# Altium schematic symbol library 简化版PCB.SCHLIB: 25 symbols
Pins are listed as number, name and electrical type; pins without a type are passive.

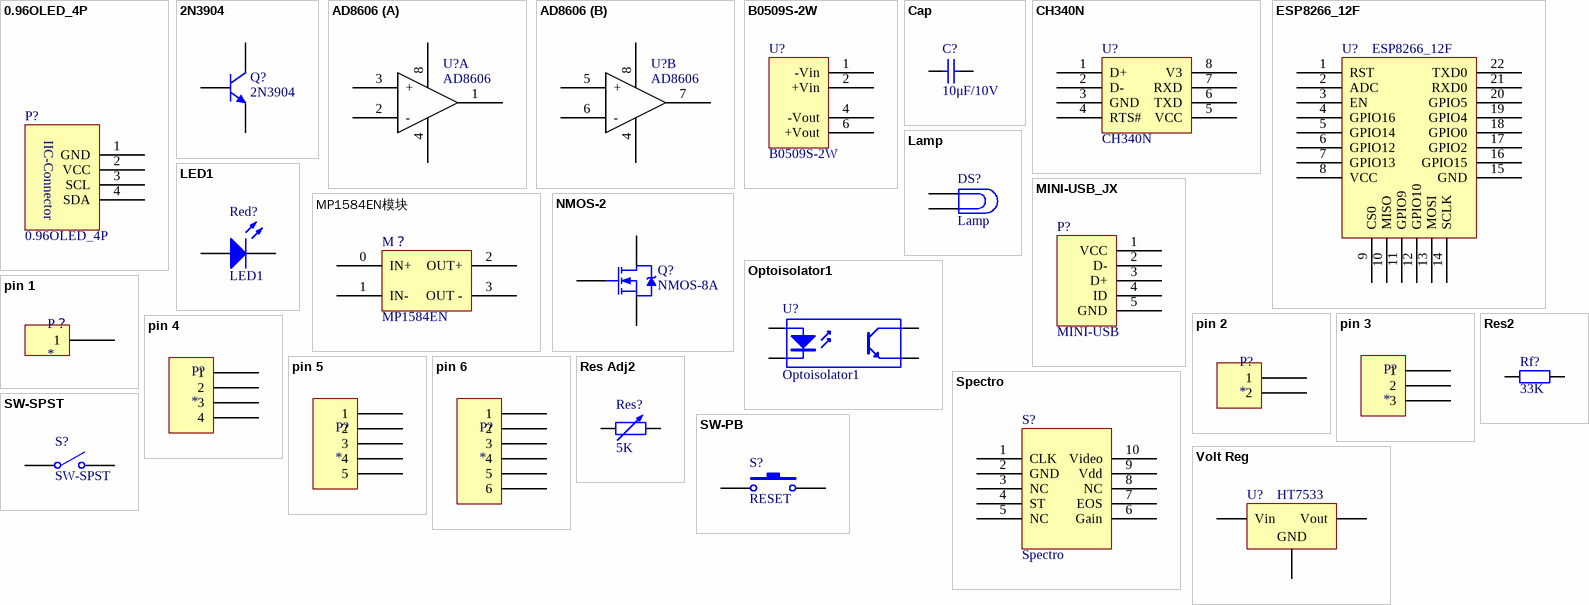
[diagram p0: symbols 0.96OLED_4P to Volt Reg]

## 0.96OLED_4P
designator P?
footprint OLED0.96-4P
pins: 1 GND, 2 VCC, 3 SCL, 4 SDA
text: IIC-Connector

## 2N3904
designator Q?
NPN General Purpose Amplifier; Published: 8-Jun-2000; LatestRevisionDate: 15-Jan-2003; LatestRevisionNote: PCB Footprint 'BCY-W3/D4.7' replaced; DatasheetVersion: 1997; PackageVersion: Sep-1998; PackageReference: TO-92A; Publisher: Altium Limited; PackageDescription: TO, Flat Index; 3 In-Line, Axial Leads; Body Dia. 4.5mm; Leads 0.51 x 0.48 mm (max); ComponentLink1Description: Manufacturer Link; ComponentLink1URL: http://www.fairchildsemi.com/; ComponentLink2Description: Datasheet; ComponentLink2URL: http://www.fairchildsemi.com/ds/2N%2F2N3904.pdf
footprint TO-92A (TO, Flat Index; 3 In-Line, Axial Leads; Body Dia. 4.5mm; Leads 0.51 x 0.48 mm (max))
simulation model 2N3904 (NPN)
signal-integrity model 2N3904
footprint SOT-23
pins: 1 B, 2 E, 3 C

## AD8606
designator U?
footprint SOP8 (封装库来自淘宝卖家 ID：黄晶宝石)
part A pins: 1 OUT A, 2 -, 3 +, 4 VEE, 8 VCC
part B pins: 4 VEE, 5 +, 6 -, 7 OUT B, 8 VCC

## B0509S-2W
designator U?
footprint B0509S-2W
pins: 1 -Vin, 2 +Vin, 4 -Vout, 6 +Vout

## Cap
designator C?, comment 10μF/10V
Capacitor; Value: 0.1μF; Published: 8-Jun-2000; LatestRevisionDate: 17-Jul-2002; LatestRevisionNote: Re-released for DXP Platform.; PackageReference: RAD-0.3; Publisher: Altium Limited; PackageDescription: Radial Cap, Thru-Hole; 2 Leads; 0.3 in Pin Spacing
footprint RAD-0.3 (Radial Cap, Thru-Hole; 2 Leads; 0.3 in Pin Spacing)
simulation model CAP (Capacitor)
signal-integrity model Cap
footprint 0805
pins: 1, 2

## CH340N
designator U?
footprint SOP8 (封装库来自淘宝卖家 ID：黄晶宝石)
pins: 1 D+, 2 D-, 3 GND, 4 RTS#, 5 VCC, 6 TXD, 7 RXD, 8 V3

## ESP8266_12F
designator U?
footprint esp8266-12f
pins: 1 RST, 2 ADC, 3 EN, 4 GPIO16, 5 GPIO14, 6 GPIO12, 7 GPIO13, 8 VCC, 9 CS0, 10 MISO, 11 GPIO9, 12 GPIO10, 13 MOSI, 14 SCLK, 15 GND, 16 GPIO15, 17 GPIO2, 18 GPIO0, 19 GPIO4, 20 GPIO5, 21 RXD0, 22 TXD0

## Lamp
designator DS?
Incandescent Bulb; Published: 24-Mar-1999; LatestRevisionNote: Re-released for DXP Platform.; PackageReference: PIN2; Publisher: Altium Limited
footprint PIN2 (Incandescent Bulb; 2 Leads)
footprint LAMP
pins: 1, 2

## LED1
designator Red?
Typical RED GaAs LED; Published: 8-Jun-2000; LatestRevisionDate: 08-Jul-2005; LatestRevisionNote: Mech Layer 1 removed.; PackageReference: LED-1; Publisher: Altium Limited; PackageDescription: LED; 2 Leads
footprint LED-1 (LED; 2 Leads)
simulation model LED1 (Diode)
footprint 0805-LED (LED, SMD, 0805)
pins: 1 A, 2 K

## MINI-USB_JX
designator P?, comment MINI-USB
footprint Micro_USB (5P 贴片 带定位柱)
pins: 1 VCC, 2 D-, 3 D+, 4 ID, 5 GND

## MP1584EN模块
designator M？, comment MP1584EN
footprint MP1584EN模块
pins: 0 IN+, 1 IN-, 2 OUT+, 3 OUT -

## NMOS-2
designator Q?, comment NMOS-8A
N-Channel Power MOSFET; Note: Pin 2 is electrically connected to pin 4.; Published: 8-Jun-2000; LatestRevisionDate: 17-Jul-2002; LatestRevisionNote: Re-released for DXP Platform.; DatasheetVersion: PD-9.814; PackageVersion: Feb-1997; PackageReference: TO-220AB; Publisher: Altium Limited; PackageDescription: TO, Thru-Hole, Vertical, Heatsink Mounted; 3 In-Line Leads; Pitch 2.54 mm; ComponentLink1Description: Manufacturer Link; ComponentLink1URL: http://www.irf.com/
footprint TO-220AB (TO, Thru-Hole, Vertical, Heatsink Mounted; 3 In-Line Leads; Pitch 2.54 mm)
simulation model IRF1010 (Spice Subcircuit)
footprint SOT-23
pins: 1 G, 2 S, 3 D

## Optoisolator1
designator U?
4-Pin Phototransistor Optocoupler; Published: 24-Mar-1999; LatestRevisionDate: 04-Mar-2005; LatestRevisionNote: Sch pins 3 & 4 Swapped.; DatasheetVersion: Nov-2003; PackageReference: DIP-4; Publisher: Altium Limited
footprint DIP-4 (DIP; 4 Leads; Row Spacing 7.62 mm; Pitch 2.54 mm)
footprint SOP4 (间距1.27mm     封装库来自淘宝卖家 ID：黄晶宝石)
pins: 1 A "Anode", 2 K "Cathode", 3 E "Emitter", 4 C "Collector"

## pin 1
designator P？
footprint PIN-1-1.0 (Pin Header)
pins: 1

## pin 2
designator P?
footprint PIN-2-2.54-1.0 (Pin Header)
pins: 1, 2

## pin 3
designator P?
footprint PIN-3-2.54-1.0 (Pin Header)
pins: 1, 2, 3

## pin 4
designator P?
footprint PIN-4-2.54-1.0 (Pin Header)
pins: 1, 2, 3, 4

## pin 5
designator P?
footprint PIN-5-2.54-1.0 (Pin Header)
pins: 1, 2, 3, 4, 5

## pin 6
designator P?
footprint PIN-6-2.54-1.0 (Pin Header)
pins: 1, 2, 3, 4, 5, 6

## Res2
designator Rf?, comment 33K
Resistor; Published: 8-Jun-2000; LatestRevisionDate: 17-Jul-2002; LatestRevisionNote: Re-released for DXP Platform.; PackageReference: AXIAL-0.4; Publisher: Altium Limited; PackageDescription: Axial Device, Thru-Hole; 2 Leads; 0.4 in Pin Spacing; Value: 33K
footprint AXIAL-0.4 (Axial Device, Thru-Hole; 2 Leads; 0.4 in Pin Spacing)
simulation model RESISTOR (Resistor)
signal-integrity model Res
footprint 0805
footprint 0603
pins: 1, 2

## Res Adj2
designator Res?, comment 5K
Variable Resistor; Value: 3.3K; Set Position: 0.5; Published: 8-Jun-2000; LatestRevisionDate: 17-Jul-2002; LatestRevisionNote: Re-released for DXP Platform.; PackageReference: AXIAL-0.6; Publisher: Altium Limited; PackageDescription: Axial Device, Thru-Hole; 2 Leads; 0.6 in Pin Spacing
footprint AXIAL-0.6 (Axial Device, Thru-Hole; 2 Leads; 0.6 in Pin Spacing)
simulation model VRES (Variable Resistor)
signal-integrity model Res Adj
footprint RES-ADJ
pins: 1, 2

## Spectro
designator S?
footprint c10988ma
pins: 1 CLK, 2 GND, 3 NC, 4 ST, 5 NC, 6 Gain, 7 EOS, 8 NC, 9 Vdd, 10 Video

## SW-PB
designator S?, comment RESET
Switch; Published: 24-Mar-1999; LatestRevisionDate: 17-Jul-2002; LatestRevisionNote: Re-released for DXP Platform.; PackageReference: SPST-2; Publisher: Altium Limited; PackageDescription: Switch; 2 Leads
footprint SPST-2 (Switch; 2 Leads)
footprint Swich
pins: 1, 2

## SW-SPST
designator S?
Single-Pole, Single-Throw Switch; Published: 24-Mar-1999; LatestRevisionDate: 17-Jul-2002; LatestRevisionNote: Re-released for DXP Platform.; PackageReference: SPST-2; Publisher: Altium Limited; PackageDescription: Switch; 2 Leads
footprint SPST-2 (Switch; 2 Leads)
pins: 1 COMMON, 2 NO

## Volt Reg
designator U?, comment HT7533
Voltage Regulator; Published: 24-Mar-1999; LatestRevisionDate: 29-May-2009; LatestRevisionNote: IPC-7351 Footprint Added.; PackageReference: D2PAK; Publisher: Altium Limited; PackageDescription: 3-Pin Transistor Outline Package 2.54 mm Pitch, 15.1 mm Lead Span
footprint SOT-89 (SOT-89, TO-243AA)
pins: 1 GND, 2 Vin, 3 Vout